# Altium schematic symbol library LQFP-100.SchLib: 1 symbol
Pins are listed as number, name and electrical type; pins without a type are passive.

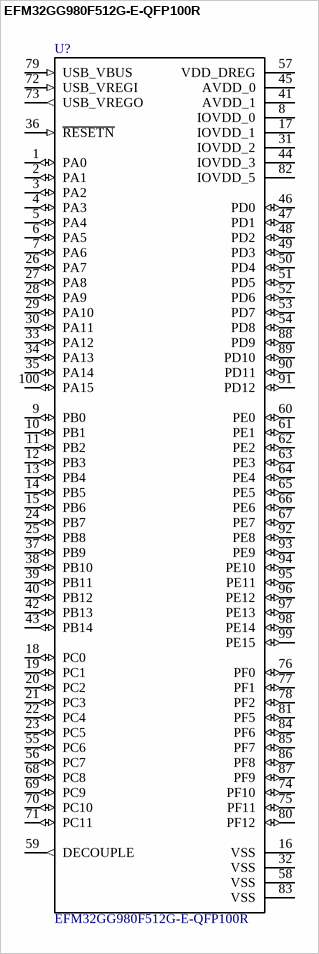
[diagram p0: symbol EFM32GG980F512G-E-QFP100R]

## EFM32GG980F512G-E-QFP100R
designator U?
512K FLASH, 128K RAM, USB, 8X34 LCD, AES, ARM Cortex-M0+ CPU platform; MF: Silicon Labs; SnapEDA_Link: https://www.snapeda.com/parts/EFM32GG980F512G-E-QFP100R/Silicon%20Labs/view-part/?ref=snap; Availability: Unavailable; Price: None; Package: LQFP-100 Silicon Labs; MP: EFM32GG980F512G-E-QFP100R; Value: *
footprint QFP50P1600X1600X160-100N
pins: 1 PA0 (io), 2 PA1 (io), 3 PA2 (io), 4 PA3 (io), 5 PA4 (io), 6 PA5 (io), 7 PA6 (io), 8 IOVDD_0 (power), 9 PB0 (io), 10 PB1 (io), 11 PB2 (io), 12 PB3 (io), 13 PB4 (io), 14 PB5 (io), 15 PB6 (io), 16 VSS (power), 17 IOVDD_1 (power), 18 PC0 (io), 19 PC1 (io), 20 PC2 (io), 21 PC3 (io), 22 PC4 (io), 23 PC5 (io), 24 PB7 (io), 25 PB8 (io), 26 PA7 (io), 27 PA8 (io), 28 PA9 (io), 29 PA10 (io), 30 PA11 (io), 31 IOVDD_2 (power), 32 VSS (power), 33 PA12 (io), 34 PA13 (io), 35 PA14 (io), 36 ~{RESETN} (in), 37 PB9 (io), 38 PB10 (io), 39 PB11 (io), 40 PB12 (io), 41 AVDD_1 (power), 42 PB13 (io), 43 PB14 (io), 44 IOVDD_3 (power), 45 AVDD_0 (power), 46 PD0 (io), 47 PD1 (io), 48 PD2 (io), 49 PD3 (io), 50 PD4 (io), 51 PD5 (io), 52 PD6 (io), 53 PD7 (io), 54 PD8 (io), 55 PC6 (io), 56 PC7 (io), 57 VDD_DREG (power), 58 VSS (power), 59 DECOUPLE (out), 60 PE0 (io), 61 PE1 (io), 62 PE2 (io), 63 PE3 (io), 64 PE4 (io), 65 PE5 (io), 66 PE6 (io), 67 PE7 (io), 68 PC8 (io), 69 PC9 (io), 70 PC10 (io), 71 PC11 (io), 72 USB_VREGI (in), 73 USB_VREGO (out), 74 PF10 (io), 75 PF11 (io), 76 PF0 (io), 77 PF1 (io), 78 PF2 (io), 79 USB_VBUS (in), 80 PF12 (io), 81 PF5 (io), 82 IOVDD_5 (power), 83 VSS (power), 84 PF6 (io), 85 PF7 (io), 86 PF8 (io), 87 PF9 (io), 88 PD9 (io), 89 PD10 (io), 90 PD11 (io), 91 PD12 (io), 92 PE8 (io), 93 PE9 (io), 94 PE10 (io), 95 PE11 (io), 96 PE12 (io), 97 PE13 (io), 98 PE14 (io), 99 PE15 (io), 100 PA15 (io)